# Altium footprint library 28Pin_project_1.1_PCB.PcbLib: 29 footprints (part 1 of 2)
Each footprint in its own frame and in the unit in brackets; x right, y up, seen from the top. Pads: shape width x height; smd on the part's side, far side on the other; paste and mask are expansions set on the pad; w line width, h text height; cw(c..) or ccw(c..) is an arc to the next point about the centre after c.
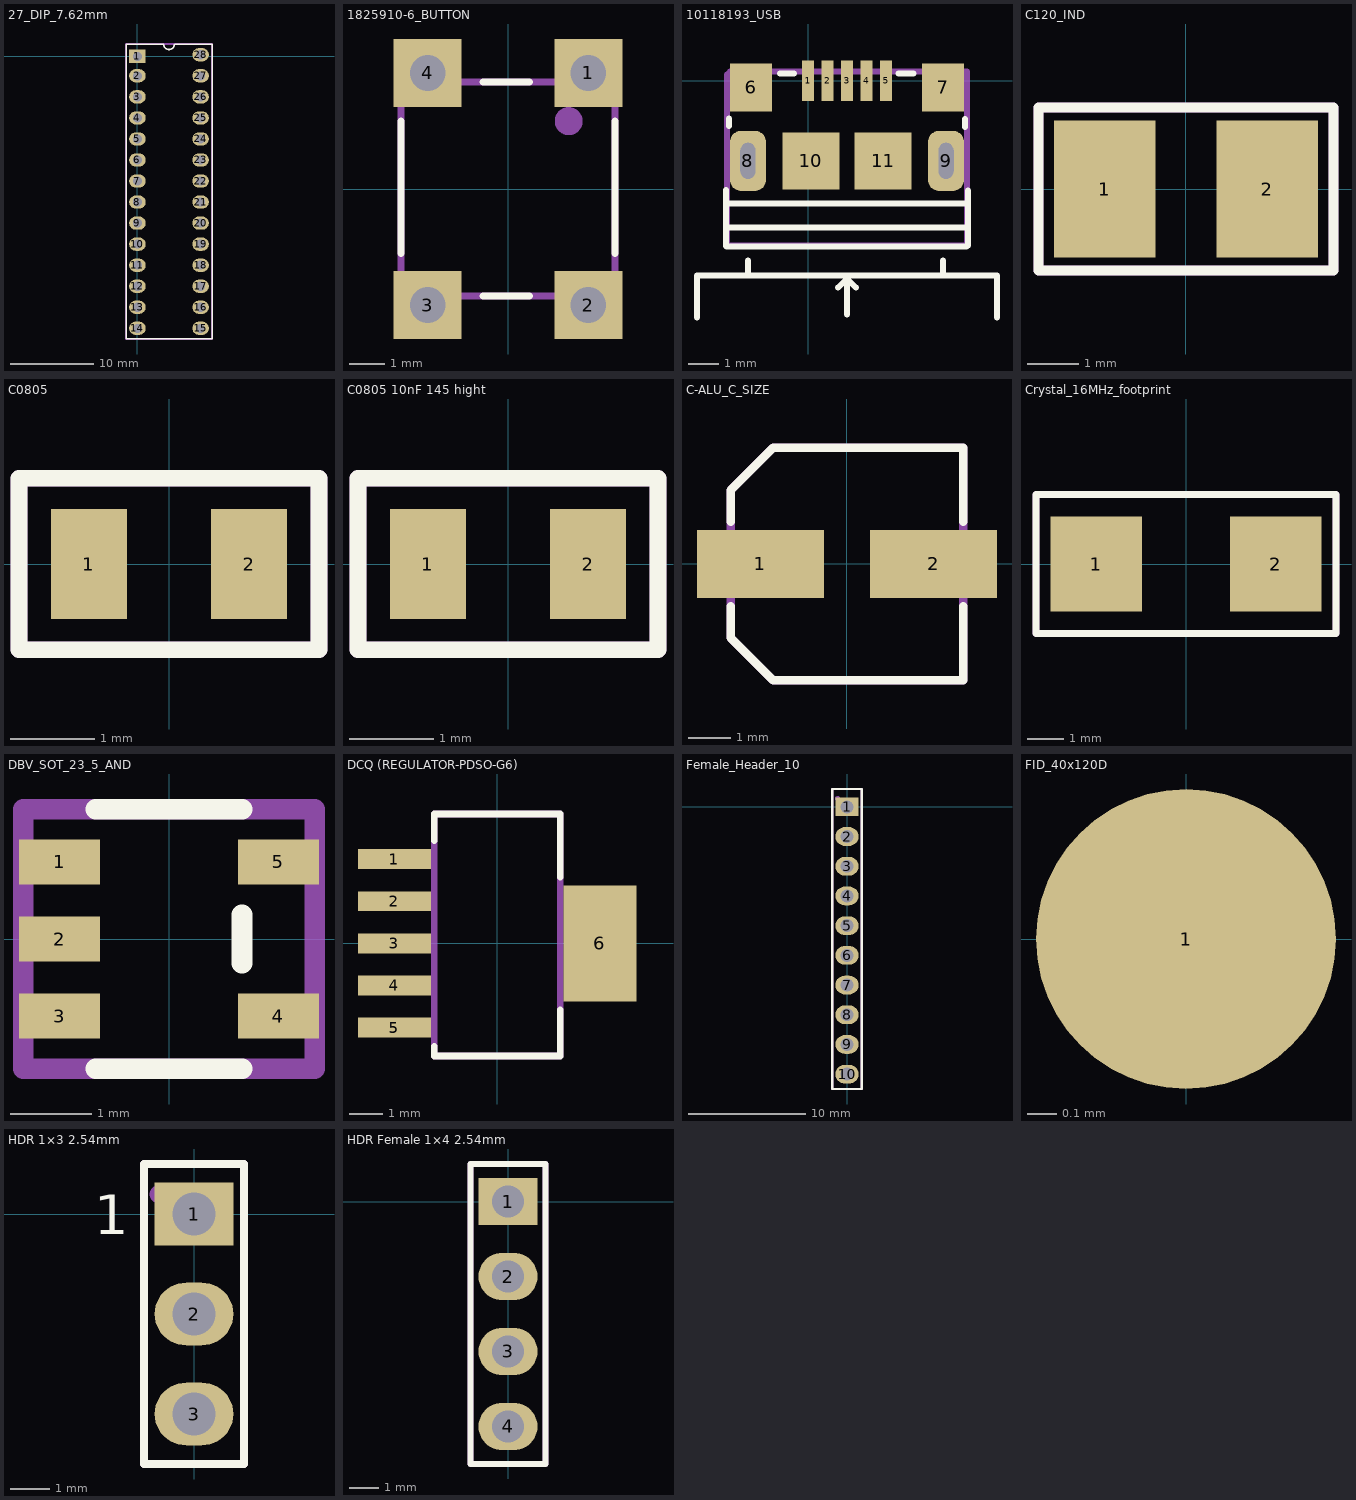
[diagram p0: the footprints below, top view; thin cyan lines are the x and y axes]

## 27_DIP_7.62mm [mm]
pads (28):
  rect 2x1.6 hole 1.1: 1(0,0)
  oval 2x1.6 hole 1.1: 2(0.01,-2.35) 3(0.01,-4.89) 4(0.01,-7.43) 5(0.01,-9.97) 6(0.01,-12.51) 7(0.01,-15.05) 8(0.01,-17.59) 9(0.01,-20.13) 10(0.01,-22.67) 11(0.01,-25.21) 12(0.01,-27.75) 13(0.01,-30.29) 14(0.01,-32.83) 15(7.63,-32.83) 16(7.63,-30.29) 17(7.63,-27.75) 18(7.63,-25.21) 19(7.63,-22.67) 20(7.63,-20.13) 21(7.63,-17.59) 22(7.63,-15.05) 23(7.63,-12.51) 24(7.63,-9.97) 25(7.63,-7.43) 26(7.63,-4.89) 27(7.63,-2.35) 28(7.63,0.19)
Top Overlay:
  lines w0.2: 4.455,1.46 cw(c3.82,1.46) 3.185,1.46 -1.355,1.46 -1.355,-0.763 -1.355,-5.208 -1.355,-7.43 -1.355,-11.875 -1.355,-20.765 -1.355,-25.21 -1.355,-27.433 -1.355,-31.878 -1.355,-34.045 -1.3,-34.1 9.02,-34.1 9.02,1.46 4.555,1.46
Mechanical 2:
  circle w1: c-0.085,0.08 r0.1
  lines w0.254: -1.385,-34.12 9.015,-34.12 9.015,1.48 -1.385,1.48 -1.385,-34.12
  text ".Designator" at 4.253,-21.966 h1.52
3D body "User Library-28 pin dip.step": height 7.55, standoff 1.33, extent -0.227,-34.26 7.647,1.681

## 28_DIP_7.62mm_SOCKET [mm]
3D body "dil_socket.stp": height 4.2, standoff -3.17, extent -1.24,-34.26 8.86,1.24

## 1825910-6_BUTTON [mm]
pads (4):
  rect 1.9x1.9 hole 1: 1(2.25,3.25) 2(2.25,-3.25) 3(-2.25,-3.25) 4(-2.25,3.25)
Top Overlay:
  lines w0.2: -3,-1.8 -3,1.9 -3,0 ; -0.7,-3 0.6,-3 ; -0.7,3 0.6,3 ; 3,-1.8 3,1.9
Mechanical 2:
  circle w0.5: c1.7,1.9 r0.141
  lines w0.2: -3,-3 -3,3 3,3 3,-3 -3,-3
  text ".Designator" at -1.6,0.133 h1.6
3D body "FSM4JLH(1825910-5).step": height 5, standoff -3.51, extent -2.995,-3.998 2.995,3.8
3D body: height 3.63, standoff -3.63, extent -0.3,0.6 -0.3,0.6
3D body: height 5.11, standoff 3.61, extent -1.9,-2.097 1.9,1.697
3D body: height 3.63, standoff -3.63, extent -0.2,-0.3 -0.2,-0.3

## 10118193 [mm]

## 10118193_USB [mm]
pads (11):
  rect 0.4x1.35 smd mask+0.05: 1(0,0) 2(0.65,0) 3(1.3,0) 4(1.95,0) 5(2.6,0)
  rect 1.4x1.6 smd: 6(-1.9,-0.225) 7(4.5,-0.225)
  rrect60% 1.2x2 hole 0.5 slot 1.2 at 90 deg: 8(-2,-2.675) 9(4.6,-2.675)
  rect 1.9x1.9 smd: 10(0.1,-2.675) 11(2.5,-2.675)
Top Overlay:
  lines w0.2: -3.7,-7.9 -3.7,-6.5 6.3,-6.5 6.3,-7.9 ; -2.73,-3.65 -2.73,-5.51 -2.71,-5.53 5.29,-5.53 5.33,-5.49 5.33,-3.67 ; -2.7,-4.9 -2.5,-4.9 5,-4.9 5.3,-4.9 ; -2.7,-4.1 5.3,-4.1 ; -2.63,-1.51 -2.63,-1.26 ; -2,-6.5 -2,-6 ; -0.94,0.23 -0.46,0.23 ; 1,-6.9 1.3,-6.6 ; 1.3,-7.8 1.3,-7.4 1.3,-6.5 1.3,-6.6 ; 1.3,-6.55 1.3,-6.6 ; 1.6,-6.9 1.3,-6.6 ; 3.02,0.23 3.51,0.23 ; 4.5,-6.5 4.5,-6 ; 5.23,-1.54 5.23,-1.28
Mechanical 2:
  lines w0.2: -2.7,-5.5 -2.7,0.2 -2.6,0.3 5.3,0.3 5.3,-5.5 -2.7,-5.5
  text ".Designator" at 0.954,-1.838 h1.52
3D body "10118193-0001lfc.stp": height 2.87, standoff -0.73, extent -2.628,-5.43 5.229,0.23

## C120_IND [mm]
pads (2):
  rect 2x2.7 smd: 1(-1.6,0) 2(1.6,0)
Top Overlay:
  lines w0.2: -2.9,-1.6 -2.9,1.6 2.9,1.6 2.9,-1.6 -2.9,-1.6
Mechanical 2:
  lines w0.2: -2.9,-1.6 -2.9,1.6 2.9,1.6 2.9,-1.6 -2.9,-1.6
  text ".Designator" at -1.75,-0.283 h1.1
3D body: height 2.7, standoff 0, extent -1.6,-1.2 -1.3,1.2
3D body: height 2.7, standoff 0, extent 1.35,-1.2 1.65,1.2
3D body: height 2.7, standoff 0, extent -1.3,-1.2 1.35,1.2

## C0805 [mm]
pads (2):
  rect 0.9x1.3 smd: 1(-0.95,0) 2(0.95,0)
Top Overlay:
  lines w0.2: -1.778,-1.016 -1.778,1.016 1.778,1.016 1.778,-1.016 -1.778,-1.016
Mechanical 2:
  lines w0.2: -1.778,-1.016 1.778,-1.016 1.778,1.016 -1.778,1.016 -1.778,-1.016
  text ".Designator" at -0.839,-0.198 h0.4
3D body "CAPC2012X94N EIA 0805.step": height 0.95, standoff 0.01, extent -1,-0.6 1,0.6

## C0805 10nF 145 hight [mm]
pads (2):
  rect 0.9x1.3 smd: 1(-0.95,0) 2(0.95,0)
Top Overlay:
  lines w0.2: -1.778,-1.016 -1.778,1.016 1.778,1.016 1.778,-1.016 -1.778,-1.016
Mechanical 2:
  lines w0.2: -1.778,-1.016 1.778,-1.016 1.778,1.016 -1.778,1.016 -1.778,-1.016
  text ".Designator" at -0.839,-0.198 h0.4
3D body "CAPC2012X145N EIA 0805.step": height 1.2, standoff 0, extent -0.97,-0.73 1.03,0.72

## C-ALU_C_SIZE [mm]
pads (2):
  rect 3x1.6 smd: 1(-2.05,0) 2(2.05,0)
Top Overlay:
  lines w0.2: -2.75,-1 -2.75,-1.75 -1.75,-2.75 2.75,-2.75 2.75,-1 ; -2.75,1 -2.75,1.75 -1.75,2.75 2.75,2.75 2.75,1
Mechanical 2:
  lines w0.2: -2.75,-1.75 -1.75,-2.75 2.75,-2.75 2.75,1 2.75,2.75 -1.75,2.75 -2.75,1.75 -2.75,1 -2.75,-1 -2.75,-1.75
  text ".Designator" at -0.8,-0.617 h1.3
3D body "User Library-capacitor size C.step": height 5.41, standoff -0.01, extent -2.7,-2.65 3.2,2.65
3D body: height 3.63, standoff -3.63, extent 2.7,2.7 2.7,2.7
3D body: height 3.63, standoff -3.63, extent 3.1,0.1 3.1,0.1
3D body: height 3.63, standoff -3.63, extent 2.6,0.7 2.6,0.7
3D body: height 5.41, standoff 5.4, extent 1.1,-0.2 2.6,0.3
3D body: height 3.63, standoff -3.63, extent 2.2,0.1 2.2,0.1

## Crystal_16MHz_footprint [mm]
pads (2):
  rect 2.5x2.6 smd: 1(-2.45,0) 2(2.45,0)
Top Overlay:
  lines w0.2: -4.1,-1.9 4.1,-1.9 4.1,1.9 -4.1,1.9 -4.1,0.8 -4.1,-1.9
Mechanical 2:
  lines w0.2: -4.1,-1.9 -4.1,1.9 4.1,1.9 4.1,-1.9 -4.1,-1.9
  text ".Designator" at -2.9,-0.4 h1.2
3D body "ABM7_Crystal.STEP": height 1.41, standoff 0.01, extent -2.927,-1.763 3.067,1.743

## DBV_SOT_23_5_AND [mm]
pads (5):
  rect 1x0.55 smd: 1(-1.35,0.95) 2(-1.35,0) 3(-1.35,-0.95) 4(1.35,-0.95) 5(1.35,0.95)
Top Overlay:
  lines w0.254: -0.9,-1.6 0.9,-1.6 ; -0.9,1.6 0.9,1.6 ; 0.9,-0.3 0.9,0.3
Mechanical 2:
  lines w0.254: -1.8,-1.6 -1.8,1.6 1.8,1.6 1.8,-1.6 -1.8,-1.6
  text ".Designator" at -1.15,-0.383 h0.8
3D body "DBV.step": height 1.6, standoff -0.02, extent -1.513,-1.525 1.514,1.525

## DCQ (REGULATOR-PDSO-G6) [mm]
pads (6):
  rect 2.2x0.6 smd: 1(-3.1,2.54) 2(-3.1,1.27) 3(-3.1,0) 4(-3.1,-1.27) 5(-3.1,-2.54)
  rect 2.2x3.5 smd: 6(3.1,0)
Top Overlay:
  lines w0.2: -1.9,-3.1 -1.9,-3.4 1.9,-3.4 1.9,-2 ; -1.9,3.1 -1.9,3.9 1.9,3.9 1.9,2
Mechanical 2:
  lines w0.2: -1.9,-3.4 -1.9,3.9 1.9,3.9 1.9,-3.4 -1.9,-3.4
  text ".Designator" at -0.3,-0.1 h1.5
3D body "User Library-TPS73701DCQ.step": height 1.71, standoff -0.09, extent -3.43,-3.275 3.83,3.275

## Female_Header_10 [mm]
pads (10):
  rect 2x1.6 hole 1.1: 1(0,0)
  oval 2x1.6 hole 1.1: 2(0,-2.54) 3(0,-5.08) 4(0,-7.62) 5(0,-10.16) 6(0,-12.7) 7(0,-15.24) 8(0,-17.78) 9(0,-20.32) 10(0,-22.86)
Top Overlay:
  lines w0.2: -1.27,-24.13 1.27,-24.13 1.27,1.524 -1.27,1.524 -1.27,-24.13
Mechanical 2:
  circle w0.254: c-0.8,0.7 r0.1
  lines w0.2: -1.27,-24.13 1.27,-24.13 1.27,1.524 -1.27,1.524 -1.27,-24.13
  text ".Designator" at 0.508,-14.986 h1.52
  text "1" at -2.54,-0.508 h1
3D body "m20-7821046_asm.stp": height 8.31, standoff -3.19, extent -1.25,-24.33 1.25,1.47

## FID_40x120D [mil]
pads (1):
  round 40 smd paste-40 mask+40: 1(0,0)

## HDR 1×3 2.54mm [mm]
pads (3):
  rect 2x1.6 hole 1.1: 1(0,0)
  oval 2x1.6 hole 1.1: 2(0,-2.54) 3(0,-5.08)
Top Overlay:
  lines w0.2: -1.27,-6.35 -1.27,1.27 1.27,1.27 1.27,-6.35 0.635,-6.35 -0.635,-6.35 -1.27,-6.35
  text "1" at -2.54,-0.508 h1
Mechanical 2:
  circle w0.254: c-0.9,0.5 r0.1
  lines w0.2: -1.27,-6.35 -1.27,1.27 -0.635,1.27 0.635,1.27 1.27,1.27 1.27,-6.35 0.635,-6.35 -0.635,-6.35 -1.27,-6.35
  text ".Designator" at 0.638,-4.246 h1.52
3D body "HDR_1x3_White.stp": height 8.39, standoff -3.11, extent -1.245,-6.15 1.165,1.07

## HDR Female 1×4 2.54mm [mm]
pads (4):
  rect 2x1.6 hole 1.1: 1(0,0)
  oval 2x1.6 hole 1.1: 2(0,-2.54) 3(0,-5.08) 4(0,-7.62)
Top Overlay:
  lines w0.2: -1.27,-8.89 1.27,-8.89 1.27,1.27 -1.27,1.27 -1.27,-8.865
Mechanical 2:
  lines w0.2: -1.27,-8.89 -0.635,-8.89 0.635,-8.89 1.27,-8.89 1.27,1.27 -1.27,1.27 -1.27,-8.865
  text ".Designator" at 0.432,-4.674 h1.52
  text "1" at -2.54,-0.508 h1
3D body "HDR_1x4_White.stp": height 8.39, standoff -3.11, extent -1.27,-8.677 1.14,1.083